# Altium schematic symbol library Button Push.Schlib: 1 symbol
Pins are listed as number, name and electrical type; pins without a type are passive.

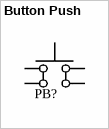
[diagram p0: symbol Button Push]

## Button Push
designator PB?  (value not drawn)
LCSC Part #: C455120; ComponentLink1Description: LCSC - XUNPU TS-1002S-10026C; ComponentLink1URL: https://lcsc.com/product-detail/Tactile-Switches_XUNPU-TS-1002S-10026C_C455120.html
footprint Tactile Pushbutton SMD 6x6x10
pins: 1, 2, 3, 4